# Altium footprint library MLL1200S.PcbLib: 2 footprints
Each footprint in its own frame and in the unit in brackets; x right, y up, seen from the top. Pads: shape width x height; smd on the part's side, far side on the other; paste and mask are expansions set on the pad; w line width, h text height; cw(c..) or ccw(c..) is an arc to the next point about the centre after c.
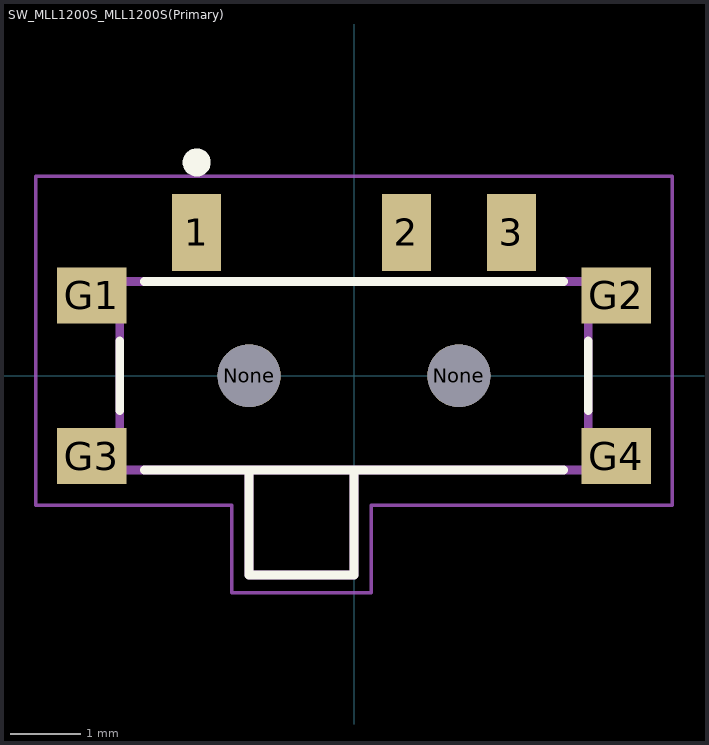
[diagram p0: the footprints below, top view; thin cyan lines are the x and y axes]

## PCBComponent_1 [mm]

## SW_MLL1200S_MLL1200S(Primary) [mm]
pads (9):
  rect 0.7x1.1 smd: 1(-2.25,2.05) 2(0.75,2.05) 3(2.25,2.05)
  rect 1x0.8 smd: G1(-3.75,1.15) G2(3.75,1.15) G3(-3.75,-1.15) G4(3.75,-1.15)
  round 0.9 hole 0.9 unplated: None(-1.5,0) None(1.5,0)
Top Overlay:
  circle w0.2: c-2.25,3.05 r0.1
  lines w0.127: -3.35,-0.5 -3.35,0.5 ; -3,-1.35 3,-1.35 ; -3,1.35 3,1.35 ; -1.5,-1.35 -1.5,-2.85 0,-2.85 0,-1.35 ; 3.35,-0.5 3.35,0.5
Mechanical 1:
  lines w0.05: -4.55,-1.85 -1.75,-1.85 -1.75,-3.1 0.25,-3.1 0.25,-1.85 4.55,-1.85 4.55,2.85 -4.55,2.85 -4.55,-1.85
  lines w0.127: -1.5,-1.35 -1.5,-2.85 0,-2.85 0,-1.35 ; -3.35,-1.35 -3.35,1.35 3.35,1.35 3.35,-1.35 -3.35,-1.35